# Altium footprint library PCB - RF MODULE - U-BLOX NEO-M8N.PcbLib: 1 footprints
Each footprint in its own frame and in the unit in brackets; x right, y up, seen from the top. Pads: shape width x height; smd on the part's side, far side on the other; paste and mask are expansions set on the pad; w line width, h text height; cw(c..) or ccw(c..) is an arc to the next point about the centre after c.
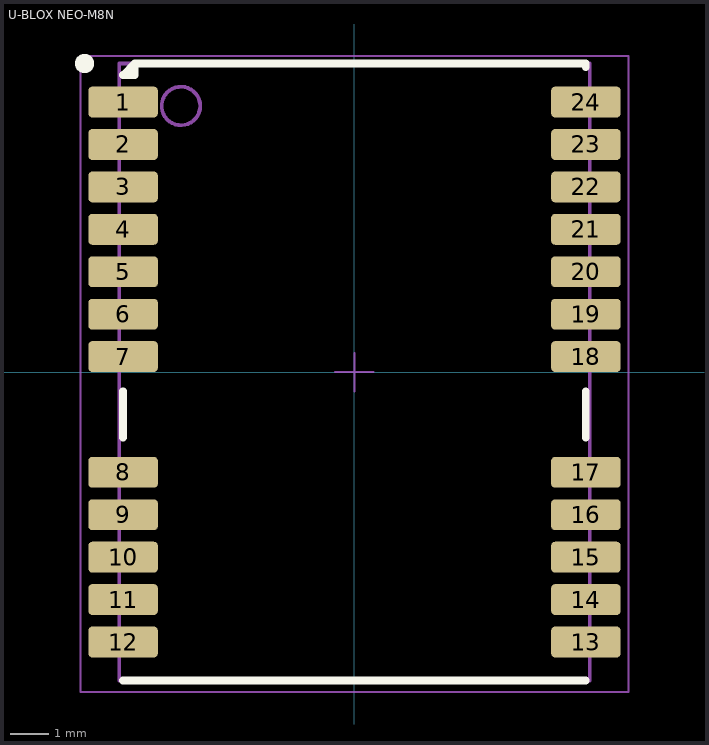
[diagram p0: the footprint, top view; thin cyan lines are the x and y axes]

## U-BLOX NEO-M8N [mm] "u-BLOX NEO GPS"
pads (24):
  rrect25% 1.8x0.8 smd: 1(-6,7.001) 2(-6,5.901) 3(-6,4.801) 4(-6,3.701) 5(-6,2.601) 6(-6,1.501) 7(-6,0.401) 8(-6,-2.599) 9(-6,-3.699) 10(-6,-4.799) 11(-6,-5.899) 12(-6,-6.999) 13(6,-6.999) 14(6,-5.899) 15(6,-4.799) 16(6,-3.699) 17(6,-2.599) 18(6,0.401) 19(6,1.501) 20(6,2.601) 21(6,3.701) 22(6,4.801) 23(6,5.901) 24(6,7.001)
Top Overlay:
  circle w0.25: c-7,8.001 r0.125
  lines w0.2: -6,-7.999 0,-7.999 6,-7.999 ; -6,-1.699 -6,-0.499 ; 6,-1.699 6,-0.499 ; 6,7.901 6,8.001 0,8.001 -5.699,8.001 ; -5.699,8.001 -5.699,7.7 -6,7.7 -5.699,8.001
Mechanical 13:
  circle w0.1: c-4.5,6.9 r0.5
  lines w0.1: -6.1,-8 -6.1,8 6.1,8 6.1,-8 -6.1,-8
Mechanical 15:
  lines w0.05: -0.5,0.001 0.5,0.001 ; 0,-0.499 0,0.501 ; -7.1,-8.3 -7.1,8.2 7.1,8.2 7.1,-8.3 -7.1,-8.3
3D body "uBlox NEO.STEP": height 2.4, standoff 0, extent -6.1,-7.999 6.1,8.001